# Altium schematic symbol library SGM8061.SchLib: 1 symbol
Pins are listed as number, name and electrical type; pins without a type are passive.

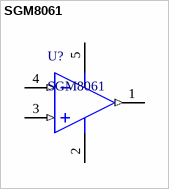
[diagram p0: symbol SGM8061]

## SGM8061
designator U?
500 MHz Unity Gain Stable Amplifier, 2.5 to 5.5 V, -40 to 85 degC, 5-pin SOT23, Green (RoHS & no Sb/Br)
footprint SOT-23-5 (SOT23, 5-Leads, Body 3.05x1.75mm, Pitch 0.95mm, IPC High Density)
pins: 1 OUT (out), 2 VS- (power), 3 IN+ (in), 4 IN- (in), 5 VS+ (power)